# Altium schematic symbol library rlc.SchLib: 65 symbols
Pins are listed as number, name and electrical type; pins without a type are passive.

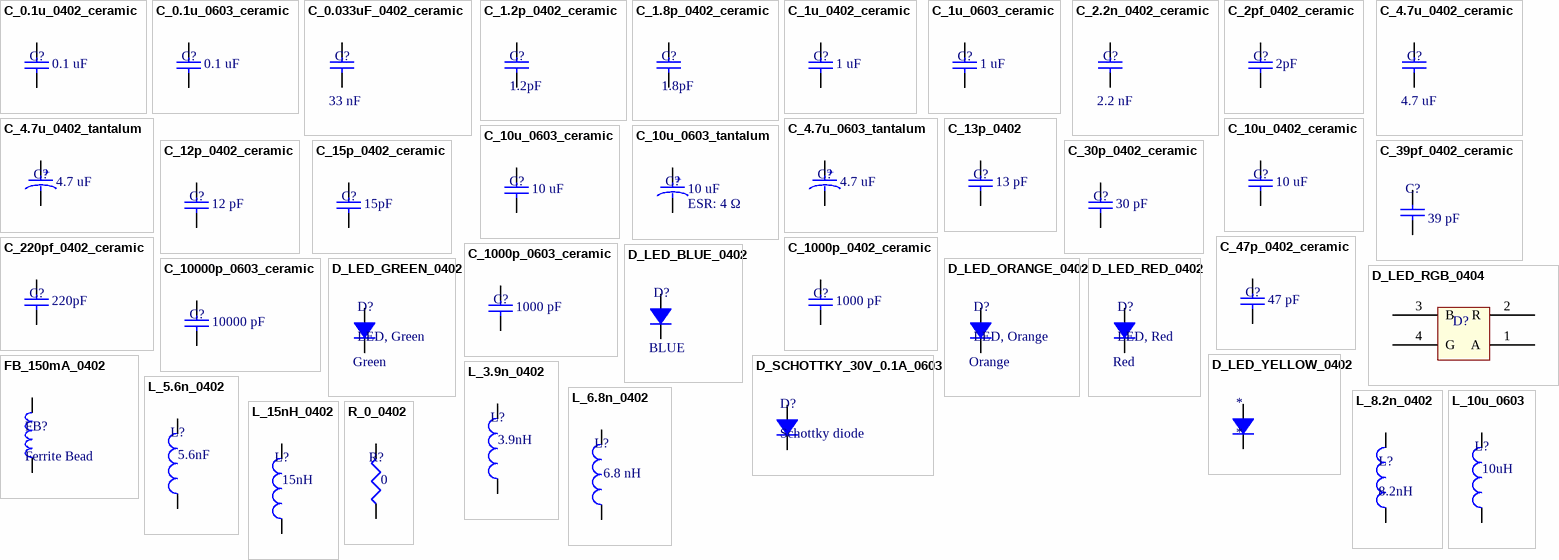
[diagram p0: symbols C_0.1u_0402_ceramic to R_0_0402]

## C_0.1u_0402_ceramic
designator C?, comment value 0.1 uF  (hidden comment: Ceramic capacitor)
Ceramic capacitor, 0.1u, 0402 package; Manufacture: TDK; voltage rated: 10 V; tolerance: 10%; Supplier 1: Digi-Key; Supplier Part Number 1: 445-1265-1-ND; package: 0402
footprint 0402 (2-Leads, Body 1.00x0.50mm, IPC Medium Density)
pins: 1, 2

## C_0.1u_0603_ceramic
designator C?, comment value 0.1 uF  (hidden comment: Ceramic capacitor)
Ceramic capacitor, 0.1 uF, 0603 package; Manufacture: TDK; voltage rated: 25V; tolerance: 10%; package: 0603; Supplier 1: Digi-Key; Supplier Part Number 1: 445-1316-1-ND
footprint 0603 (2-Leads, Body 1.55x0.85mm, IPC Medium Density)
pins: 1, 2

## C_0.033uF_0402_ceramic
designator C?, comment value 33 nF  (hidden comment: 33 nF Cap)
33nF 10% 0402 16V X7R ceramic cap; Manufacturer: Samsung; Supplier 1: Digikey; Supplier Part Number 1: 1276-1177-1-ND
footprint 0402 (2-Leads, Body 1.00x0.50mm, IPC Medium Density)
pins: 1, 2

## C_1.2p_0402_ceramic
designator C?, comment 1.2pF
1.2pF .1pF 50V C0G NP0 0402 ceramic cap; Manufacturer: Murata; Supplier 1: Digikey; Supplier Part Number 1: 490-6209-1-ND
footprint 0402 (2-Leads, Body 1.00x0.50mm, IPC Medium Density)
pins: 1, 2

## C_1.8p_0402_ceramic
designator C?, comment 1.8pF
1.8pF .1pF 50V C0G NP0 ceramic cap; Manufacturer: Samsung; Supplier 1: Digikey; Supplier Part Number 1: 1276-1659-1-ND
footprint 0402 (2-Leads, Body 1.00x0.50mm, IPC Medium Density)
pins: 1, 2

## C_1u_0402_ceramic
designator C?, comment value 1 uF  (hidden comment: Ceramic capacitor)
Ceramic capacitor, 1 uF, 0402 package; Manufacture: TDK; voltage rated: 6.3 V; tolerance: 10%; package: 0402; Supplier 1: Digi-Key; Supplier Part Number 1: 445-5000-1-ND
footprint 0402 (2-Leads, Body 1.00x0.50mm, IPC Medium Density)
pins: 1, 2

## C_1u_0603_ceramic
designator C?, comment value 1 uF  (hidden comment: Ceramic capacitor)
Ceramic capacitor, 1 uF, 0603 package; Manufacture: TDK; voltage rated: 10V; tolerance: 10%; package: 0603; Supplier 1: Digi-Key; Supplier Part Number 1: 445-1321-1-ND
footprint 0603 (2-Leads, Body 1.55x0.85mm, IPC Medium Density)
pins: 1, 2

## C_2.2n_0402_ceramic
designator C?, comment value 2.2 nF  (hidden comment: 2.2nF Cap)
2.2nF 10% 50V X7R ceramic cap; Manufacturer: TDK; Supplier 1: Digikey; Supplier Part Number 1: 445-1257-1-ND
footprint 0402 (2-Leads, Body 1.00x0.50mm, IPC Medium Density)
pins: 1, 2

## C_2pf_0402_ceramic
designator C?, comment value 2pF  (hidden comment: 2pF 0402 ceramic cap)
2pF .05pF 50 V C0G NP0 0402 ceramic cap; Mfr: Murata; Mfr Part Number: GRM1555C1H2R0WA01D; Supplier 1: Digikey; Supplier Part Number 1: 490-8193-1-ND
footprint 0402 (2-Leads, Body 1.00x0.50mm, IPC Medium Density)
pins: 1, 2

## C_4.7u_0402_ceramic
designator C?, comment value 4.7 uF  (hidden comment: 4.7uF)
4.7 uF 10% 0402 6.3V X5R ceramic cap; Manufacturer: TDK; Supplier 1: Digikey; Supplier Part Number 1: 445-5947-1-ND
footprint 0402 (2-Leads, Body 1.00x0.50mm, IPC Medium Density)
pins: 1, 2

## C_4.7u_0402_tantalum
designator C?, comment value 4.7 uF  (hidden comment: Tantalum capacitor)
Tantalum capacitor, 4.7 uF, 0402 package; Manufacture: AVX; voltage rated: 10 V; tolerance: 20%; package: 0402; Supplier 1: Digi-Key; Supplier Part Number 1: 478-9392-1-ND
footprint 0402 (2-Leads, Body 1.00x0.50mm, IPC Medium Density)
pins: 1, 2
text: +

## C_4.7u_0603_tantalum
designator C?, comment value 4.7 uF  (hidden comment: Tantalum capacitor)
Tantalum capacitor, 4.7 uF, 0603 package; Manufacture: Rohm; voltage rated: 10 V; tolerance: 20%; package: 0603; Supplier 1: Digi-Key; Supplier Part Number 1: 511-1496-1-ND
footprint 0603 - Polar Marking (2-Leads, Body 1.55x0.85mm, IPC Medium Density)
pins: 1, 2
text: +

## C_10u_0402_ceramic
designator C?, comment value 10 uF  (hidden comment: Ceramic capacitor)
Ceramic capacitor, 10 uF, 0402 package; Manufacture: TDK; voltage rated: 4V; tolerance: 20%; package: 0402; Supplier 1: Digi-Key; Supplier Part Number 1: 445-8919-1-ND
footprint 0402 (2-Leads, Body 1.00x0.50mm, IPC Medium Density)
pins: 1, 2

## C_10u_0603_ceramic
designator C?, comment value 10 uF  (hidden comment: Ceramic capacitor)
Ceramic capacitor, 10 uF, 0603 package; Manufacture: TDK; voltage rated: 6.3V; tolerance: 20%; package: 0603; Supplier 1: Digi-Key; Supplier Part Number 1: 445-4112-1-ND
footprint 0603 (2-Leads, Body 1.55x0.85mm, IPC Medium Density)
pins: 1, 2

## C_10u_0603_tantalum
designator C?, comment value 10 uF  ESR: 4 Ω  (hidden comment: Tantalum capacitor)
Tantalum capacitor, 10 uF, 0603 package; Manufacture: AVX; voltage rated: 6.3V; tolerance: 10%; package: 0603; Supplier 1: Digi-Key; Supplier Part Number 1: 478-4959-1-ND
footprint 0603 - Polar Marking (2-Leads, Body 1.55x0.85mm, IPC Medium Density)
pins: 1, 2
text: +

## C_12p_0402_ceramic
designator C?, comment value 12 pF  (hidden comment: Ceramic capacitor)
Ceramic capacitor, 12 pF, 0402 package; Manufacture: Johanson; voltage rated: 50 V; tolerance: 2%; package: 0402; Supplier 1: Digi-Key; Supplier Part Number 1: 712-1256-1-ND
footprint 0402 (2-Leads, Body 1.00x0.50mm, IPC Medium Density)
pins: 1, 2

## C_13p_0402
designator C?, comment value 13 pF  (hidden comment: 13pf 0402 Cap)
13pf, 50V, 2%, c0G, NP0, 0402, ceramic; Mfr: Murata; Mfr Part Number: GRM1555C1H130GA01D; Supplier 1: Digikey; Supplier Part Number 1: 490-8184-1-ND
footprint 0402 (2-Leads, Body 1.00x0.50mm, IPC Medium Density)
pins: 1, 2

## C_15p_0402_ceramic
designator C?, comment value 15pF  (hidden comment: 15pF 0402 ceramic cap)
15pF, 2%, NP0, 0402; Mfr: Murata; Mfr Part Number: GRM1555C1H150GA01D; Supplier 1: Digikey; Supplier Part Number 1: 490-6201-1-ND
footprint 0402 (2-Leads, Body 1.00x0.50mm, IPC Medium Density)
pins: 1, 2

## C_30p_0402_ceramic
designator C?, comment value 30 pF  (hidden comment: Ceramic capacitor)
Ceramic capacitor, 30 pF, 0402 package; Manufacture: Johanson; voltage rated: 50 V; tolerance: 2%; package: 0402; Supplier 1: Digi-Key; Supplier Part Number 1: 712-1295-1-ND
footprint 0402 (2-Leads, Body 1.00x0.50mm, IPC Medium Density)
pins: 1, 2

## C_39pf_0402_ceramic
designator C?, comment value 39 pF  (hidden comment: Ceramic Capacitor)
Ceramic capacitor, 0402, 39 pF, 5%, C0G, NP0, RF suitable; Supplier 1: Digikey; Supplier Part Number 1: 720-1288-1-ND
footprint 0402 (2-Leads, Body 1.00x0.50mm, IPC Medium Density)
pins: 1, 2

## C_47p_0402_ceramic
designator C?, comment value 47 pF  (hidden comment: Ceramic capacitor)
Ceramic capacitor, 47 pF, 0402 package; Manufacture: Johanson; voltage rated: 50 V; tolerance: 5%; package: 0402; Supplier 1: Digi-Key; Supplier Part Number 1: 709-1121-1-ND
footprint 0402 (2-Leads, Body 1.00x0.50mm, IPC Medium Density)
pins: 1, 2

## C_220pf_0402_ceramic
designator C?, comment value 220pF  (hidden comment: 220pF 0402 ceramic cap)
220pF 5% 50 V C0G NP0 0402 ceramic cap; Mfr: Murata; Mfr Part Number: GRM1555C1H221JA01D; Supplier 1: Digikey; Supplier Part Number 1: 490-1293-1-ND
footprint 0402 (2-Leads, Body 1.00x0.50mm, IPC Medium Density)
pins: 1, 2

## C_1000p_0402_ceramic
designator C?, comment value 1000 pF  (hidden comment: Ceramic capacitor)
Ceramic capacitor, 1000 pF, 0402 package; Manufacture: TDK; voltage rated: 50 V; tolerance: 10%; package: 0402; Supplier 1: Digi-Key; Supplier Part Number 1: 445-6846-1-ND
footprint 0402 (2-Leads, Body 1.00x0.50mm, IPC Medium Density)
pins: 1, 2

## C_1000p_0603_ceramic
designator C?, comment value 1000 pF  (hidden comment: Ceramic capacitor)
Ceramic capacitor, 1000 pF, 0603 package; Manufacture: TDK; voltage rated: 50V; tolerance: 10%; package: 0603; Supplier 1: Digi-Key; Supplier Part Number 1: 445-5659-1-ND
footprint 0603 (2-Leads, Body 1.55x0.85mm, IPC Medium Density)
pins: 1, 2

## C_10000p_0603_ceramic
designator C?, comment value 10000 pF  (hidden comment: Ceramic capacitor)
Ceramic capacitor, 10000 pF, 0603 package; Manufacture: TDK; voltage rated: 25V; tolerance: 10%; package: 0603; Supplier 1: Digi-Key; Supplier Part Number 1: 445-5100-1-ND
footprint 0603 (2-Leads, Body 1.55x0.85mm, IPC Medium Density)
pins: 1, 2

## D_LED_BLUE_0402
designator D?, comment Color: BLUE  (hidden comment: Blue Chip LED)
LED, Blue, 0402; Supplier 1: Digikey; Supplier Part Number 1: 475-3112-1-ND
footprint 0402 - polar marking (2-Leads, Body 1.00x0.50mm, IPC Medium Density)
pins: 1, 2

## D_LED_GREEN_0402
designator D?, comment LED, Green  Color: Green
LED, Green,  0402; package: 0402; Supplier 1: Digi-Key; Supplier Part Number 1: 511-1592-1-ND
footprint 0402 - DIODE (2-Leads, Body 1.00x0.50mm, IPC Medium Density)
pins: 1, 2

## D_LED_ORANGE_0402
designator D?, comment LED, Orange  Color: Orange
LED, Orange, 0402; Supplier 1: Digi-Key; Supplier Part Number 1: 511-1590-1-ND; package: 0402
footprint 0402 - DIODE (2-Leads, Body 1.00x0.50mm, IPC Medium Density)
pins: 1, 2

## D_LED_RED_0402
designator D?, comment LED, Red  Color: Red
LED, Red, 0402; package: 0402; Supplier 1: Digi-Key; Supplier Part Number 1: 511-1593-1-ND
footprint 0402 - DIODE (2-Leads, Body 1.00x0.50mm, IPC Medium Density)
pins: 1, 2

## D_LED_RGB_0404
designator D?, comment Tri Color LED  (value not drawn)
LED, RGB, 0404; Supplier 1: Digikey; Supplier Part Number 1: SMLP34RGB2W3CT-ND
footprint 0404
pins: 1 A, 2 R, 3 B, 4 G

## D_LED_YELLOW_0402
designator *
pins: 1, 2

## D_SCHOTTKY_30V_0.1A_0603
designator D?, comment Schottky diode
Schottky diode 30 V 0.1 A 0603; package: 0603; Supplier 1: Digi-Key; Supplier Part Number 1: 641-1282-1-ND
footprint 0603 - DIODE (2-Leads, Body 1.55x0.85mm, IPC Medium Density)
pins: 1, 2

## FB_150mA_0402
designator FB?, comment Ferrite Bead
Ferrite Bead, 150 mA, 0402 package; impedance@Freq: 1K@100 MHz; current rating: 150 mA; Supplier 1: Digi-Key; Supplier Part Number 1: 587-1835-1-ND; package: 0402
footprint 0402 (2-Leads, Body 1.00x0.50mm, IPC Medium Density)
pins: 1, 2

## L_3.9n_0402
designator L?, comment value 3.9nH  (hidden comment: 3.9nH 0402 chip inductor)
3.9nH, .1nH, 0402, chip inductor; Manufacturer: Murata; Manufacturer Part Number: LQP15MN3N9B02D; Supplier 1: Digikey; Supplier Part Number 1: 490-1131-1-ND
footprint 0402 (2-Leads, Body 1.00x0.50mm, IPC Medium Density)
pins: 1, 2

## L_5.6n_0402
designator L?, comment value 5.6nF  (hidden comment: 5.6nH chip inductor)
5.6 nH, .1nH 0402, 6GHz, chip inductor; Manufacturer: Murata; Supplier 1: Digikey; Supplier Part Number 1: 490-1133-1-ND
footprint 0402 (2-Leads, Body 1.00x0.50mm, IPC Medium Density)
pins: 1, 2

## L_6.8n_0402
designator L?, comment value 6.8 nH  (hidden comment: Chip inductor)
Chip inductor, 6.8 nH, 0402 package; tolerance: 5%; package: 0402; Supplier 1: Digi-Key; Supplier Part Number 1: 712-1419-1-ND
footprint 0402 (2-Leads, Body 1.00x0.50mm, IPC Medium Density)
pins: 1, 2

## L_8.2n_0402
designator L?, comment 8.2nH
8.2nH .1nH 1.1Ohm 5.5GHz 0402 chip inductor; Manufacturer: Murata; Supplier 1: Digikey; Supplier Part Number 1: 490-1135-1-ND
footprint 0402 (2-Leads, Body 1.00x0.50mm, IPC Medium Density)
pins: 1, 2

## L_10u_0603
designator L?, comment value 10uH  (hidden comment: 10uH chip inductor)
10uH, 10%, 32MHz, 468 mOhm, 0603, chip inductor; Mfr: Taiyo Yuden; Mfr Part Number: LBMF1608T100K; Supplier 1: Digikey; Supplier Part Number 1: 587-1714-1-ND
footprint 0603 (2-Leads, Body 1.55x0.85mm, IPC Medium Density)
pins: 1, 2

## L_15nH_0402
designator L?, comment value 15nH  (hidden comment: 15nH chip inductor)
15 nH, 5%, 460mOhm, 2.3Ghz, 0402 chip inductor; Mfr: Taiyo Yuden; Mfr Part Number: HK100515NJ-T; Supplier 1: Digikey; Supplier Part Number 1: 587-1521-1-ND
footprint 0402 (2-Leads, Body 1.00x0.50mm, IPC Medium Density)
pins: 1, 2

## R_0_0402
designator R?, comment value 0  (hidden comment: Chip resistor)
Chip resistor, 0, 0402 package; package: 0402; Supplier 1: Digi-Key; Supplier Part Number 1: 541-0.0YBCT-ND
footprint 0402 (Chip Resistor, 2-Leads, Body 1.00x0.50mm, IPC Medium Density)
pins: 1, 2

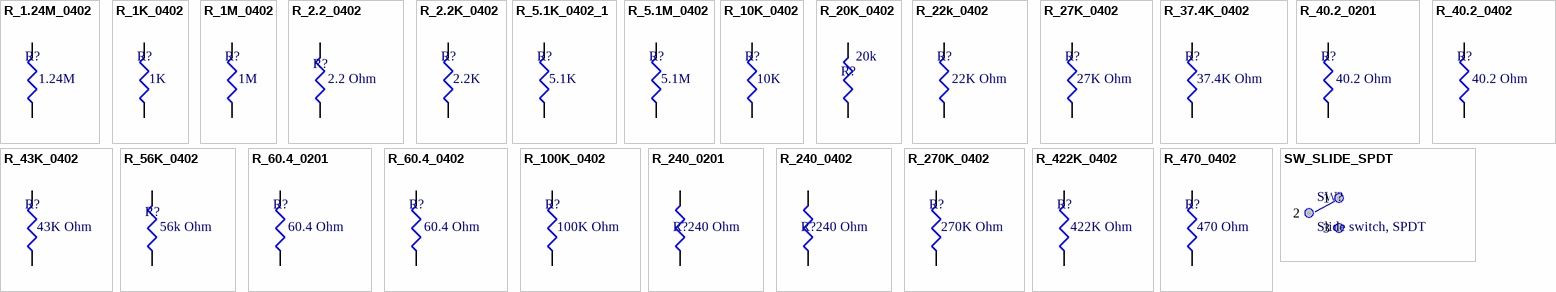
[diagram p1: symbols R_1.24M_0402 to SW_SLIDE_SPDT]

## R_1.24M_0402
designator R?, comment value 1.24M  (hidden comment: Chip resistor)
Chip resistor, 1.24M, 0402 package; tolerance: 1%; power: 1/16 W; package: 0402; Supplier 1: Digi-Key; Supplier Part Number 1: 541-1.24MLCT-ND
footprint 0402 (Chip Resistor, 2-Leads, Body 1.00x0.50mm, IPC Medium Density)
pins: 1, 2

## R_1K_0402
designator R?, comment value 1K  (hidden comment: Chip resistor)
Chip resistor, 1K, 0402 package; tolerance: 1%; power: 1/16 W; Supplier 1: Digi-Key; Supplier Part Number 1: 541-1.00KLCT-ND; package: 0402
footprint 0402 (Chip Resistor, 2-Leads, Body 1.00x0.50mm, IPC Medium Density)
pins: 1, 2

## R_1M_0402
designator R?, comment value 1M  (hidden comment: Chip resistor)
Chip resistor, 1M, 0402 package; tolerance: 1%; power: 1/16 W; Supplier 1: Digi-Key; Supplier Part Number 1: 541-1.00MLCT-ND; package: 0402
footprint 0402 (Chip Resistor, 2-Leads, Body 1.00x0.50mm, IPC Medium Density)
pins: 1, 2

## R_2.2_0402
designator R?, comment value 2.2 Ohm  (hidden comment: 2.2 Ohm 0402 Res)
2.2 Ohm, 1%, .063W, 0402; Mfr: Vishay Dale; Mfr Part Number: CRCW04022R20FKED; Supplier 1: Digikey; Supplier Part Number 1: 541-2.20LLCT-ND
footprint 0402 (2-Leads, Body 1.00x0.50mm, IPC Medium Density)
pins: 1, 2

## R_2.2K_0402
designator R?, comment value 2.2K  (hidden comment: Chip resistor)
Chip resistor, 2.2K, 0402 package; tolerance: 1%; power: 1/16 W; package: 0402; Supplier 1: Digi-Key; Supplier Part Number 1: 541-2.20KLCT-ND
footprint 0402 (Chip Resistor, 2-Leads, Body 1.00x0.50mm, IPC Medium Density)
pins: 1, 2

## R_5.1K_0402_1
designator R?, comment value 5.1K  (hidden comment: Chip resistor)
Chip resistor, 5.1K,  0402 package; tolerance: .5%; power: 1/16 W; package: 0402; Supplier 1: Digi-Key; Supplier Part Number 1: RR05P5.1KDCT-ND
footprint 0402 (Chip Resistor, 2-Leads, Body 1.00x0.50mm, IPC Medium Density)
pins: 1, 2

## R_5.1M_0402
designator R?, comment value 5.1M  (hidden comment: Chip resistor)
Chip resistor, 5.1M,  0402 package; tolerance: 5%; power: 1/16 W; package: 0402; Supplier 1: Digi-Key; Supplier Part Number 1: 541-5.1MJCT-ND
footprint 0402 (Chip Resistor, 2-Leads, Body 1.00x0.50mm, IPC Medium Density)
pins: 1, 2

## R_10K_0402
designator R?, comment value 10K  (hidden comment: Chip resistor)
Chip resistor, 10K, 0402 package; tolerance: 1%; power: 1/16 W; Supplier 1: Digi-Key; Supplier Part Number 1: 541-10.0KLDKR-ND; package: 0402
footprint 0402 (Chip Resistor, 2-Leads, Body 1.00x0.50mm, IPC Medium Density)
pins: 1, 2

## R_20K_0402
designator R?, comment value 20k  (hidden comment: 20k Resistor)
20k ohm, 0402, 1%, .1W; Supplier 1: Digikey; Supplier Part Number 1: RR05P20.0KDCT-ND
footprint 0402 (2-Leads, Body 1.00x0.50mm, IPC Medium Density)
pins: 1, 2

## R_22k_0402
designator R?, comment value 22K Ohm  (hidden comment: 22k 0402 resistor)
22k 1% .063W 0402 resistor; Mfr: Samsung; Mfr Part Number: RC1005F223CS; Supplier 1: Digikey; Supplier Part Number 1: 1276-4143-1-ND
footprint 0402 (2-Leads, Body 1.00x0.50mm, IPC Medium Density)
pins: 1, 2

## R_27K_0402
designator R?, comment value 27K Ohm  (hidden comment: Chip resistor)
Chip resistor, 27K, 0402 package; tolerance: 1%; power: 1/16 W; package: 0402; Supplier 1: Digi-Key; Supplier Part Number 1: 541-27.0KLCT-ND
footprint 0402 (Chip Resistor, 2-Leads, Body 1.00x0.50mm, IPC Medium Density)
pins: 1, 2

## R_37.4K_0402
designator R?, comment value 37.4K Ohm  (hidden comment: Chip resistor)
Chip resistor, 37.4K, 0402 package; tolerance: 1%; power: 1/16 W; package: 0402; Supplier 1: Digi-Key; Supplier Part Number 1: 541-37.4KLCT-ND
footprint 0402 (Chip Resistor, 2-Leads, Body 1.00x0.50mm, IPC Medium Density)
pins: 1, 2

## R_40.2_0201
designator R?, comment value 40.2 Ohm  (hidden comment: Chip Resistor)
40.2 Ohm 0201 1% Chip Resistor; Supplier 1: Digikey; Supplier Part Number 1: 1276-3586-1-ND
footprint 0201 (Chip Resistor, 2-Leads, Body 0.60x0.30mm, IPC Medium Density)
pins: 1, 2

## R_40.2_0402
designator R?, comment value 40.2 Ohm  (hidden comment: Chip Resistor)
40.2 Ohm 0402 1% Chip Resistor; Supplier 1: Digikey; Supplier Part Number 1: RMCF0402FT40R2CT-ND
footprint 0402 (2-Leads, Body 1.00x0.50mm, IPC Medium Density)
pins: 1, 2

## R_43K_0402
designator R?, comment value 43K Ohm  (hidden comment: Chip resistor)
Chip resistor, 43K, 0402 package; tolerance: 1%; power: 1/16 W; Supplier 1: Digi-Key; Supplier Part Number 1: 541-43.0KLCT-ND; package: 0402
footprint 0402 (Chip Resistor, 2-Leads, Body 1.00x0.50mm, IPC Medium Density)
pins: 1, 2

## R_56K_0402
designator R?, comment value 56k Ohm  (hidden comment: 56k 0402 Res)
56 kOhm, 1%, .0603 W, 0402; Mfr: Rohm; Mfr Part Number: MCR01MRTF5602; Supplier 1: Digikey; Supplier Part Number 1: RHM56.0KCDCT-ND
footprint 0402 (2-Leads, Body 1.00x0.50mm, IPC Medium Density)
pins: 1, 2

## R_60.4_0201
designator R?, comment value 60.4 Ohm  (hidden comment: Chip resistor)
60.4 Ohm, .05W, 1% 0201 Chip Resistor; Supplier 1: DIgikey; Supplier Part Number 1: P60.4ABCT-ND
footprint 0201 (Chip Resistor, 2-Leads, Body 0.60x0.30mm, IPC Medium Density)
pins: 1, 2

## R_60.4_0402
designator R?, comment value 60.4 Ohm  (hidden comment: Chip resistor)
60.4 Ohm, .05W, 1% 0402 Chip Resistor; Supplier 1: DIgikey; Supplier Part Number 1: P60.4LCT-ND
footprint 0402 (2-Leads, Body 1.00x0.50mm, IPC Medium Density)
pins: 1, 2

## R_100K_0402
designator R?, comment value 100K Ohm  (hidden comment: Chip resistor)
Chip resistor, 100K, 0402 package; tolerance: 1%; power: 1/16 W; Supplier 1: Digi-Key; Supplier Part Number 1: 541-100KLCT-ND; package: 0402
footprint 0402 (Chip Resistor, 2-Leads, Body 1.00x0.50mm, IPC Medium Density)
pins: 1, 2

## R_240_0201
designator R?, comment value 240 Ohm  (hidden comment: Chip resistor)
240 Ohm, 1%, .05W, 0201 Chip Resistor; Supplier 1: Digikey; Supplier Part Number 1: P240AGCT-ND
footprint 0201 (Chip Resistor, 2-Leads, Body 0.60x0.30mm, IPC Medium Density)
pins: 1, 2

## R_240_0402
designator R?, comment value 240 Ohm  (hidden comment: Chip resistor)
240 Ohm, 1%, .05W, 0402 Chip Resistor; Supplier 1: Digikey; Supplier Part Number 1: 1276-3965-1-ND
footprint 0402 (2-Leads, Body 1.00x0.50mm, IPC Medium Density)
pins: 1, 2

## R_270K_0402
designator R?, comment value 270K Ohm  (hidden comment: Chip resistor)
Chip resistor, 270K, 0402 package; tolerance: 1%; power: 1/16 W; package: 0402; Supplier 1: Digi-Key; Supplier Part Number 1: 541-270KLCT-ND
footprint 0402 (Chip Resistor, 2-Leads, Body 1.00x0.50mm, IPC Medium Density)
pins: 1, 2

## R_422K_0402
designator R?, comment value 422K Ohm  (hidden comment: Chip resistor)
Chip resistor, 422K, 0402 package; tolerance: 1%; power: 1/16 W; package: 0402; Supplier 1: Digi-Key; Supplier Part Number 1: 541-422KLCT-ND
footprint 0402 (Chip Resistor, 2-Leads, Body 1.00x0.50mm, IPC Medium Density)
pins: 1, 2

## R_470_0402
designator R?, comment value 470 Ohm  (hidden comment: Chip resistor)
Chip resistor, 470, 0402 package; tolerance: 1%; power: 1/16 W; Supplier 1: Digi-Key; Supplier Part Number 1: 541-470LCT-ND; package: 0402
footprint 0402 (Chip Resistor, 2-Leads, Body 1.00x0.50mm, IPC Medium Density)
pins: 1, 2

## SW_SLIDE_SPDT
designator SW?, comment Slide switch, SPDT
Supplier 1: Digi-Key; Supplier Part Number 1: 450-1577-ND
footprint Slide Switch SPDT (Surface mount, 3 position, right angle slide switch)
pins: 1, 2, 3